# Altium schematic symbol library Battery.SchLib: 1 symbol
Pins are listed as number, name and electrical type; pins without a type are passive.

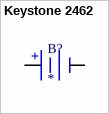
[diagram p0: symbol Keystone 2462]

## Keystone 2462
designator B?
pins: 1 +, 2 -